# Altium footprint library DXPpcb.PCBLIB: 575 footprints (part 18 of 36)
Each footprint in its own frame and in the unit in brackets; x right, y up, seen from the top. Pads: shape width x height; smd on the part's side, far side on the other; paste and mask are expansions set on the pad; w line width, h text height; cw(c..) or ccw(c..) is an arc to the next point about the centre after c.
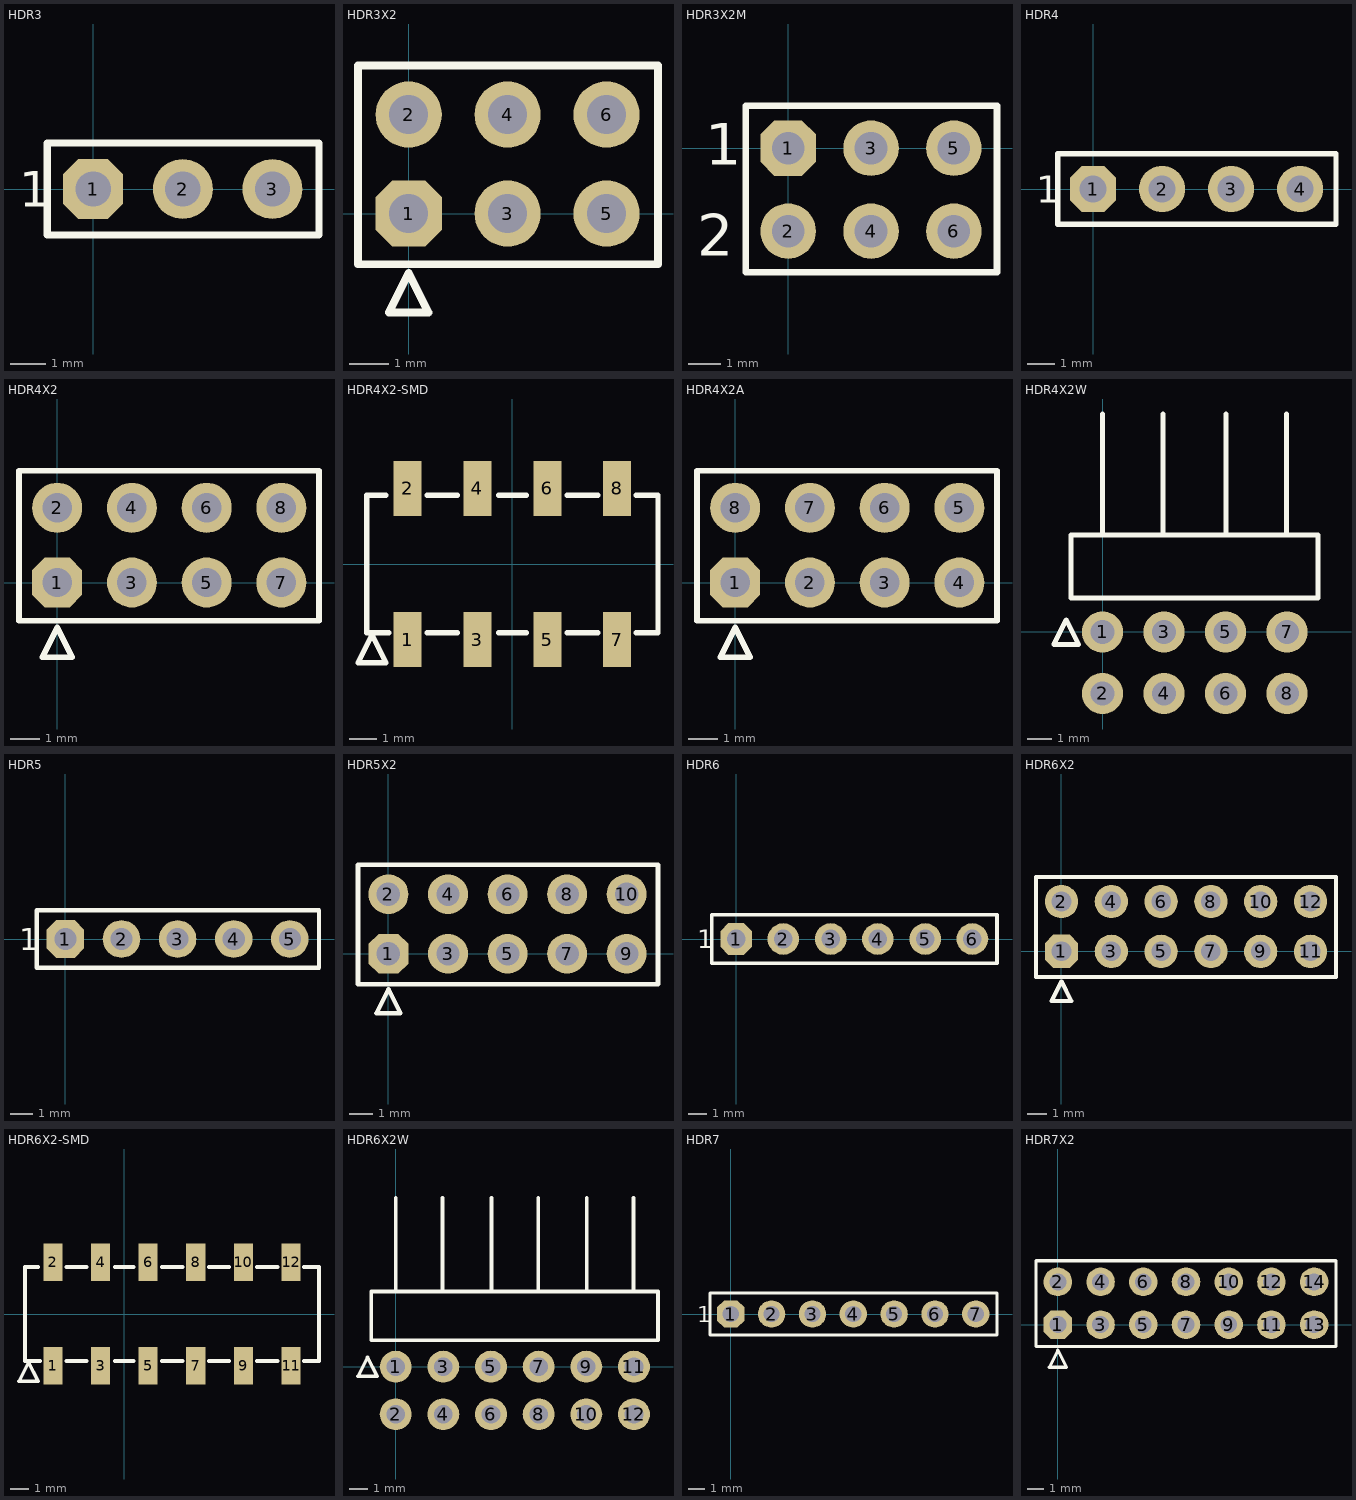
[diagram p17: the footprints below, top view; thin cyan lines are the x and y axes]

## HDR3 [mm]
pads (3):
  oct 1.7x1.7 hole 1: 1(0,0)
  round 1.7 hole 1: 2(2.54,0) 3(5.08,0)
TopOverlay:
  lines w0.2: -1.3,-1.3 6.4,-1.3 6.4,1.3 -1.3,1.3 -1.3,-1.3
  text "1" at -2.1,-0.5 h1

## HDR3X2 [mm]
pads (6):
  oct 1.7x1.7 hole 1: 1(0,0)
  round 1.7 hole 1: 2(0,2.54) 3(2.54,0) 4(2.54,2.54) 5(5.08,0) 6(5.08,2.54)
TopOverlay:
  lines w0.2: -1.3,-1.3 -1.3,3.8 6.4,3.8 6.4,-1.3 -1.3,-1.3 ; -0.508,-2.54 0,-1.524 0.508,-2.54 -0.508,-2.54

## HDR3X2M [mm]
pads (6):
  oct 1.7x1.7 hole 1: 1(0,0)
  round 1.7 hole 1: 2(0,-2.54) 3(2.54,0) 4(2.54,-2.54) 5(5.08,0) 6(5.08,-2.54)
TopOverlay:
  lines w0.2: -1.3,-3.8 -1.3,1.3 6.4,1.3 6.4,-3.8 -1.3,-3.8
  text "1" at -2.54,-0.508 h1.27
  text "2" at -2.794,-3.302 h1.27

## HDR4 [mm]
pads (4):
  oct 1.7x1.7 hole 1: 1(0,0)
  round 1.7 hole 1: 2(2.54,0) 3(5.08,0) 4(7.62,0)
TopOverlay:
  lines w0.2: -1.3,-1.3 8.94,-1.3 8.94,1.3 -1.3,1.3 -1.3,-1.3
  text "1" at -2.1,-0.5 h1

## HDR4X2 [mm]
pads (8):
  oct 1.7x1.7 hole 1: 1(0,0)
  round 1.7 hole 1: 2(0,2.54) 3(2.54,0) 4(2.54,2.54) 5(5.08,0) 6(5.08,2.54) 7(7.62,0) 8(7.62,2.54)
TopOverlay:
  lines w0.2: -1.3,-1.3 -1.3,3.8 8.9,3.8 8.9,-1.3 -1.3,-1.3 ; -0.508,-2.54 0,-1.524 0.508,-2.54 -0.508,-2.54

## HDR4X2-SMD [mm]
pads (8):
  rect 1.02x2 smd: 1(-3.81,-2.75) 2(-3.81,2.75) 3(-1.27,-2.75) 4(-1.27,2.75) 5(1.27,-2.75) 6(1.27,2.75) 7(3.81,-2.75) 8(3.81,2.75)
TopOverlay:
  lines w0.2: -4.6,2.5 -5.3,2.5 -5.3,-2.5 -4.5,-2.5 ; -3.1,-2.5 -2,-2.5 ; -3.1,2.5 -2,2.5 ; -0.5,-2.5 0.5,-2.5 ; -0.5,2.5 0.5,2.5 ; 2,-2.5 3.1,-2.5 ; 2,2.5 3.1,2.5 ; 4.5,-2.5 5.3,-2.5 5.3,2.5 4.5,2.5 ; -5.618,-3.59 -4.602,-3.59 -5.11,-2.574 -5.618,-3.59

## HDR4X2A [mm]
pads (8):
  oct 1.7x1.7 hole 1: 1(0,0)
  round 1.7 hole 1: 2(2.54,0) 3(5.08,0) 4(7.62,0) 5(7.62,2.54) 6(5.08,2.54) 7(2.54,2.54) 8(0,2.54)
TopOverlay:
  lines w0.2: -1.3,-1.3 -1.3,3.8 8.9,3.8 8.9,-1.3 -1.3,-1.3 ; -0.508,-2.54 0,-1.524 0.508,-2.54 -0.508,-2.54

## HDR4X2W [mm]
pads (8):
  round 1.7 hole 1: 1(0,0) 2(0,-2.54) 3(2.54,0) 4(2.54,-2.54) 5(5.08,0) 6(5.08,-2.54) 7(7.62,0) 8(7.62,-2.54)
TopOverlay:
  lines w0.2: 0,4 0,9 ; 2.5,4 2.5,9 ; 5.1,4 5.1,9 ; 7.6,4 7.6,9 ; -2.008,-0.516 -0.992,-0.516 -1.5,0.5 -2.008,-0.516 ; -1.3,1.4 8.9,1.4 8.9,4 -1.3,4 -1.3,1.4

## HDR5 [mm]
pads (5):
  oct 1.7x1.7 hole 1: 1(0,0)
  round 1.7 hole 1: 2(2.54,0) 3(5.08,0) 4(7.62,0) 5(10.16,0)
TopOverlay:
  lines w0.2: -1.3,-1.3 11.48,-1.3 11.48,1.3 -1.3,1.3 -1.3,-1.3
  text "1" at -2.1,-0.5 h1

## HDR5X2 [mm]
pads (10):
  oct 1.7x1.7 hole 1: 1(0,0)
  round 1.7 hole 1: 2(0,2.54) 3(2.54,0) 4(2.54,2.54) 5(5.08,0) 6(5.08,2.54) 7(7.62,0) 8(7.62,2.54) 9(10.16,0) 10(10.16,2.54)
TopOverlay:
  lines w0.2: -1.3,-1.3 -1.3,3.8 11.5,3.8 11.5,-1.3 -1.3,-1.3 ; -0.508,-2.54 0,-1.524 0.508,-2.54 -0.508,-2.54

## HDR6 [mm]
pads (6):
  oct 1.7x1.7 hole 1: 1(0,0)
  round 1.7 hole 1: 2(2.54,0) 3(5.08,0) 4(7.62,0) 5(10.16,0) 6(12.7,0)
TopOverlay:
  lines w0.2: -1.3,-1.3 -1.3,1.3 14.02,1.3 14.02,-1.3 -1.3,-1.3
  text "1" at -2.1,-0.5 h1

## HDR6X2 [mm]
pads (12):
  oct 1.7x1.7 hole 1: 1(0,0)
  round 1.7 hole 1: 2(0,2.54) 3(2.54,0) 4(2.54,2.54) 5(5.08,0) 6(5.08,2.54) 7(7.62,0) 8(7.62,2.54) 9(10.16,0) 10(10.16,2.54) 11(12.7,0) 12(12.7,2.54)
TopOverlay:
  lines w0.2: -1.3,-1.3 -1.3,3.8 14,3.8 14,-1.3 -1.3,-1.3 ; -0.508,-2.54 0,-1.524 0.508,-2.54 -0.508,-2.54

## HDR6X2-SMD [mm]
pads (12):
  rect 1.02x2 smd: 1(-3.81,-2.75) 2(-3.81,2.75) 3(-1.27,-2.75) 4(-1.27,2.75) 5(1.27,-2.75) 6(1.27,2.75) 7(3.81,-2.75) 8(3.81,2.75) 9(6.35,-2.75) 10(6.35,2.75) 11(8.89,-2.75) 12(8.89,2.75)
TopOverlay:
  lines w0.2: -4.6,2.5 -5.3,2.5 -5.3,-2.5 -4.5,-2.5 ; -3.1,-2.5 -2,-2.5 ; -3.1,2.5 -2,2.5 ; -0.5,-2.5 0.5,-2.5 ; -0.5,2.5 0.5,2.5 ; 2,-2.5 3.1,-2.5 ; 2,2.5 3.1,2.5 ; 4.5,-2.5 5.6,-2.5 ; 4.5,2.5 5.6,2.5 ; 7.08,-2.5 8.18,-2.5 ; 7.08,2.5 8.18,2.5 ; 9.58,-2.5 10.38,-2.5 10.38,2.5 9.58,2.5 ; -5.618,-3.59 -4.602,-3.59 -5.11,-2.574 -5.618,-3.59

## HDR6X2W [mm]
pads (12):
  round 1.7 hole 1: 1(0,0) 2(0,-2.54) 3(2.54,0) 4(2.54,-2.54) 5(5.08,0) 6(5.08,-2.54) 7(7.62,0) 8(7.62,-2.54) 9(10.16,0) 10(10.16,-2.54) 11(12.7,0) 12(12.7,-2.54)
TopOverlay:
  lines w0.2: 0,4 0,9 ; 2.5,4 2.5,9 ; 5.1,4 5.1,9 ; 7.6,4 7.6,9 ; 10.18,4 10.18,9 ; 12.68,4 12.68,9 ; -2.008,-0.516 -0.992,-0.516 -1.5,0.5 -2.008,-0.516 ; -1.3,1.4 13.98,1.4 13.98,4 -1.3,4 -1.3,1.4

## HDR7 [mm]
pads (7):
  oct 1.7x1.7 hole 1: 1(0,0)
  round 1.7 hole 1: 2(2.54,0) 3(5.08,0) 4(7.62,0) 5(10.16,0) 6(12.7,0) 7(15.24,0)
TopOverlay:
  lines w0.2: -1.3,-1.3 -1.3,1.3 16.56,1.3 16.56,-1.3 -1.3,-1.3
  text "1" at -2.1,-0.5 h1

## HDR7X2 [mm]
pads (14):
  oct 1.7x1.7 hole 1: 1(0,0)
  round 1.7 hole 1: 2(0,2.54) 3(2.54,0) 4(2.54,2.54) 5(5.08,0) 6(5.08,2.54) 7(7.62,0) 8(7.62,2.54) 9(10.16,0) 10(10.16,2.54) 11(12.7,0) 12(12.7,2.54) 13(15.24,0) 14(15.24,2.54)
TopOverlay:
  lines w0.2: -1.3,-1.3 -1.3,3.8 16.54,3.8 16.54,-1.3 -1.3,-1.3 ; -0.508,-2.54 0,-1.524 0.508,-2.54 -0.508,-2.54